# Altium footprint library conn_CR2032_BH600.PcbLib: 1 footprints
Each footprint in its own frame and in the unit in brackets; x right, y up, seen from the top. Pads: shape width x height; smd on the part's side, far side on the other; paste and mask are expansions set on the pad; w line width, h text height; cw(c..) or ccw(c..) is an arc to the next point about the centre after c.
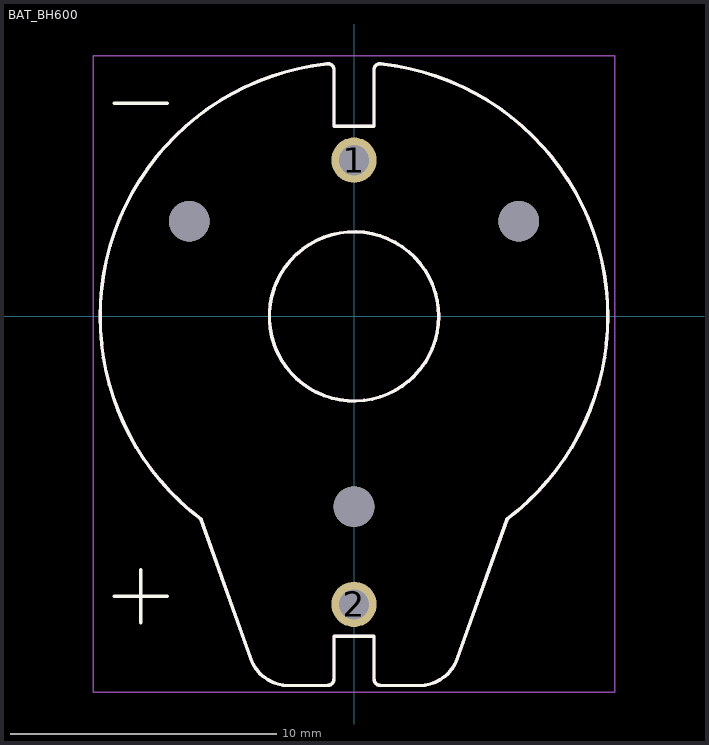
[diagram p0: the footprint, top view; thin cyan lines are the x and y axes]

## BAT_BH600 [mm]
pads (5):
  round 1.7 hole 1.13: 1(0,5.86) 2(0,-10.8)
  round 1.52 hole 1.52 unplated: ""(-6.179,3.568) ""(0,-7.135) ""(6.179,3.568)
Top Overlay:
  circle w0.127: c0,0 r3.175
  lines w0.127: -9.525,-0.004 ccw(c-0.005,-0.004) -5.734,-7.607 ; -9.525,0 cw(c-0.002,0) -0.997,9.471 ; -9,-10.5 -7,-10.5 ; -9,8 -7,8 ; -8,-11.5 -8,-9.5 ; -5.75,-7.595 -3.867,-12.851 ; -3.864,-12.858 ccw(c-2.455,-12.345) -2.455,-13.845 -1,-13.845 ccw(c-1,-13.595) -0.75,-13.595 -0.75,-12 0.75,-12 0.75,-13.595 ccw(c1,-13.595) 1,-13.845 2.455,-13.845 ccw(c2.455,-12.345) 3.864,-12.858 ; -0.96,9.475 cw(c-0.968,9.257) -0.75,9.25 -0.75,7.135 0.75,7.135 0.75,9.25 ; 0.75,9.248 cw(c0.965,9.26) 0.961,9.475 ; 0.997,9.471 cw(c0.002,0) 9.525,0 ; 3.867,-12.851 5.75,-7.595 ; 5.734,-7.607 ccw(c0.005,-0.004) 9.525,-0.004
Mechanical 13:
  circle w0.127: c0,0 r3.175
  lines w0.127: -9.525,-0.004 ccw(c-0.005,-0.004) -5.734,-7.607 ; -9.525,0 cw(c-0.002,0) -0.997,9.471 ; -5.75,-7.595 -3.867,-12.851 ; -3.864,-12.858 ccw(c-2.455,-12.345) -2.455,-13.845 -1,-13.845 ccw(c-1,-13.595) -0.75,-13.595 -0.75,-12 0.75,-12 0.75,-13.595 ccw(c1,-13.595) 1,-13.845 2.455,-13.845 ccw(c2.455,-12.345) 3.864,-12.858 ; -0.96,9.475 cw(c-0.968,9.257) -0.75,9.25 -0.75,7.135 0.75,7.135 0.75,9.25 ; 0.75,9.248 cw(c0.965,9.26) 0.961,9.475 ; 0.997,9.471 cw(c0.002,0) 9.525,0 ; 3.867,-12.851 5.75,-7.595 ; 5.734,-7.607 ccw(c0.005,-0.004) 9.525,-0.004
Mechanical 15:
  lines w0.05: -9.775,-14.095 9.775,-14.095 9.775,9.775 -9.775,9.775 -9.775,-14.095
3D body "CR2032_BH600.STEP": height 7.34, standoff -5.36, extent -9.524,-13.843 9.525,9.504